# Altium footprint library BraaiBuddyPCB_Schematic_Lib.PcbLib: 29 footprints (part 2 of 2)
Each footprint in its own frame and in the unit in brackets; x right, y up, seen from the top. Pads: shape width x height; smd on the part's side, far side on the other; paste and mask are expansions set on the pad; w line width, h text height; cw(c..) or ccw(c..) is an arc to the next point about the centre after c.
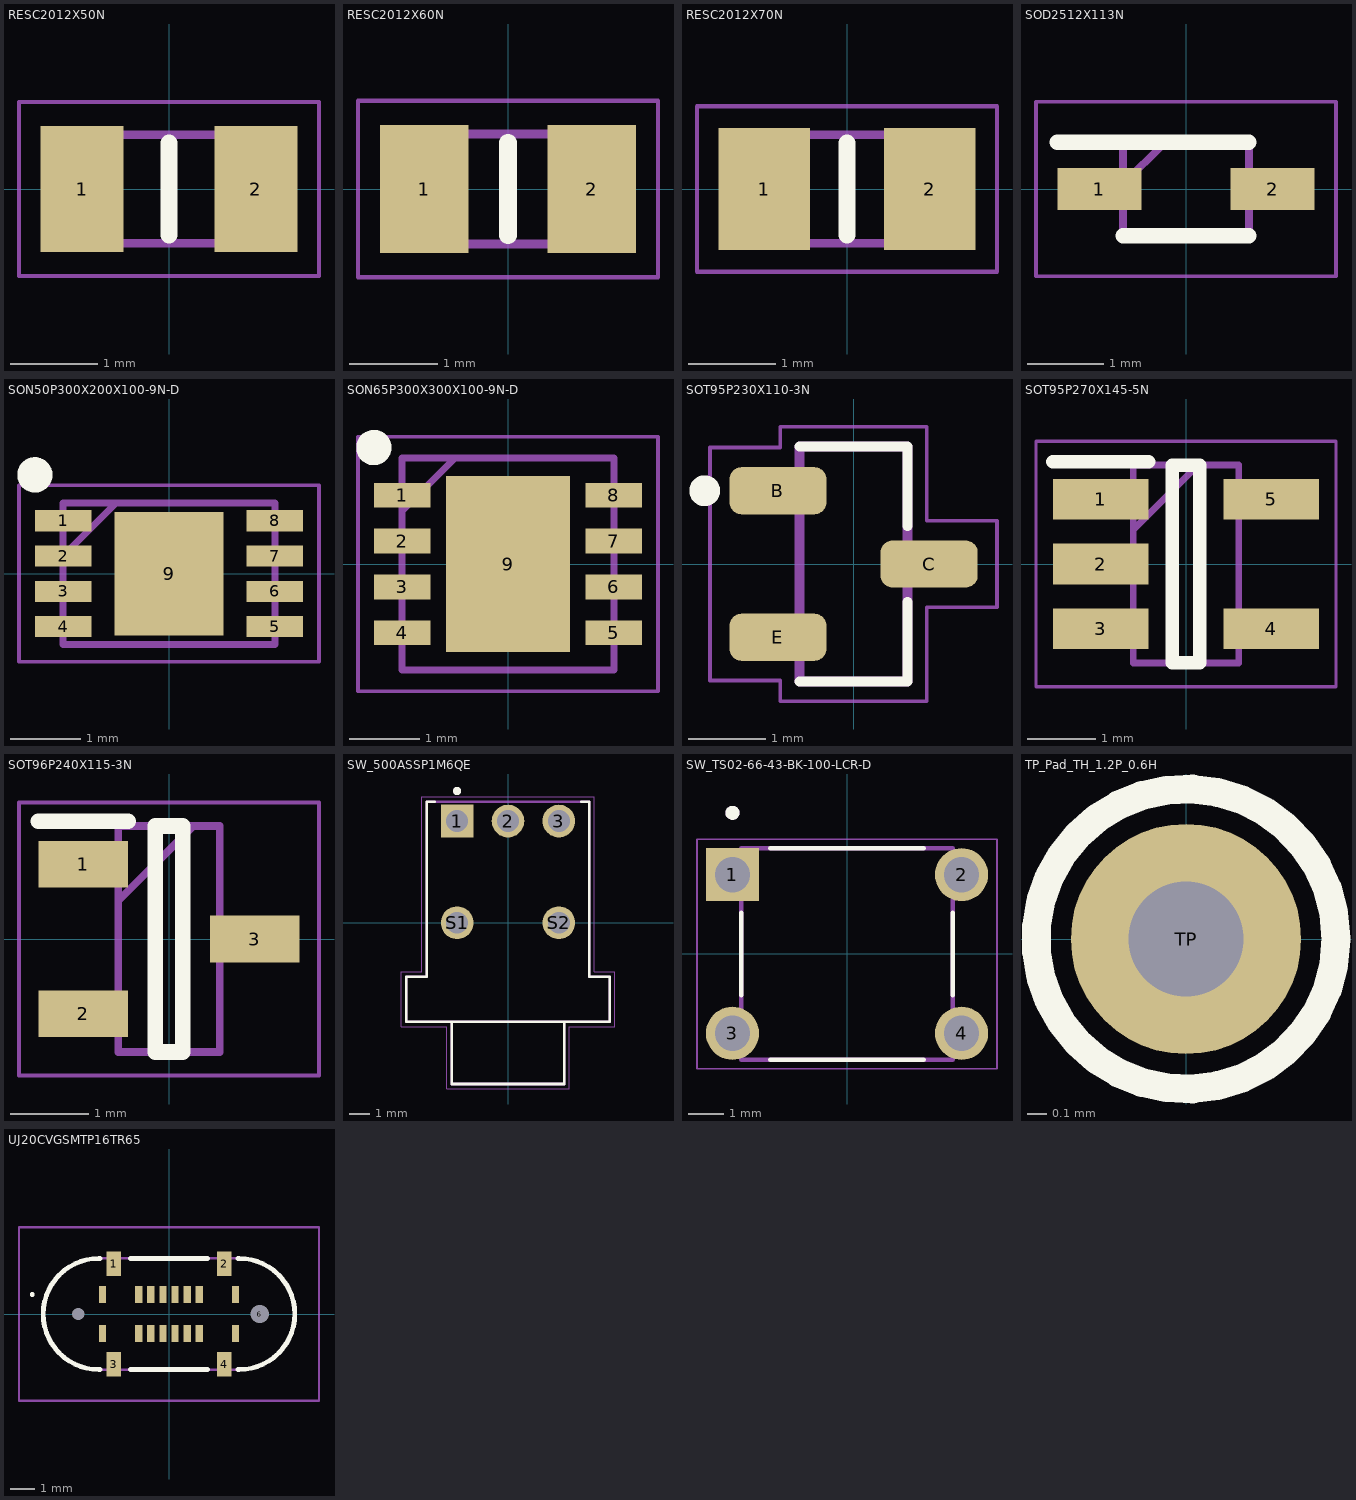
[diagram p1: the footprints below, top view; thin cyan lines are the x and y axes]

## RESC2012X50N [mm]
pads (2):
  rect 0.95x1.45 smd: 1(-1,0) 2(1,0)
Top Overlay:
  lines w0.2: 0,-0.525 0,0.525
Mechanical 13:
  lines w0.1: -1.025,-0.625 1.025,-0.625 1.025,0.625 -1.025,0.625 -1.025,-0.625
Mechanical 15:
  lines w0.05: -1.725,-1 1.725,-1 1.725,1 -1.725,1 -1.725,-1
3D body "CRCW0805100KJNECC.stp": height 0.45, standoff 0, extent -1,-0.62 1,0.63

## RESC2012X60N [mm]
pads (2):
  rect 1x1.45 smd: 1(-0.95,0) 2(0.95,0)
Top Overlay:
  lines w0.2: 0,-0.525 0,0.525
Mechanical 13:
  lines w0.1: -1,-0.625 1,-0.625 1,0.625 -1,0.625 -1,-0.625
Mechanical 15:
  lines w0.05: -1.7,-1 1.7,-1 1.7,1 -1.7,1 -1.7,-1
3D body "CR0805-FX-1002ELF.stp": height 0.5, standoff 0, extent -1,-0.625 1,0.625

## RESC2012X70N [mm]
pads (2):
  rect 1.05x1.4 smd: 1(-0.95,0) 2(0.95,0)
Top Overlay:
  lines w0.2: 0,-0.525 0,0.525
Mechanical 13:
  lines w0.1: -1,-0.625 -1,0.625 1,0.625 1,-0.625 -1,-0.625
Mechanical 15:
  lines w0.05: -1.725,-0.95 -1.725,0.95 1.725,0.95 1.725,-0.95 -1.725,-0.95
3D body "ERJ-PB6B2201V.stp": height 0.7, standoff 0, extent -1,-0.625 1,0.625

## SOD2512X113N [mm]
pads (2):
  rect 1.11x0.55 smd: 1(-1.14,0) 2(1.14,0)
Top Overlay:
  lines w0.2: -1.695,0.615 0.83,0.615 ; -0.83,-0.615 0.83,-0.615
Mechanical 13:
  lines w0.1: -0.83,0.06 -0.275,0.615 ; -0.83,-0.615 0.83,-0.615 0.83,0.615 -0.83,0.615 -0.83,-0.615
Mechanical 15:
  lines w0.05: -1.975,-1.15 1.975,-1.15 1.975,1.15 -1.975,1.15 -1.975,-1.15
3D body "BAT20JFILM.stp": height 1.13, standoff 0, extent -1.25,-0.615 1.25,0.615

## SON50P300X200X100-9N-D [mm]
pads (9):
  rect 0.8x0.3 smd: 1(-1.5,0.75) 2(-1.5,0.25) 3(-1.5,-0.25) 4(-1.5,-0.75) 5(1.5,-0.75) 6(1.5,-0.25) 7(1.5,0.25) 8(1.5,0.75)
  rect 1.55x1.75 smd: 9(0,0)
Top Overlay:
  circle w0.25: c-1.9,1.4 r0.125
Mechanical 13:
  lines w0.1: -1.5,0.25 -0.75,1 ; -1.5,-1 -1.5,1 1.5,1 1.5,-1 -1.5,-1
Mechanical 15:
  lines w0.05: -2.125,-1.25 -2.125,1.25 2.125,1.25 2.125,-1.25 -2.125,-1.25
3D body "MCP73831T-3ACI_MC.stp": height 1, standoff 0, extent -1.55,-1 1.55,1

## SON65P300X300X100-9N-D [mm]
pads (9):
  rect 0.8x0.35 smd: 1(-1.5,0.975) 2(-1.5,0.325) 3(-1.5,-0.325) 4(-1.5,-0.975) 5(1.5,-0.975) 6(1.5,-0.325) 7(1.5,0.325) 8(1.5,0.975)
  rect 1.75x2.5 smd: 9(0,0)
Top Overlay:
  circle w0.25: c-1.9,1.65 r0.125
Mechanical 13:
  lines w0.1: -1.5,0.75 -0.75,1.5 ; -1.5,-1.5 1.5,-1.5 1.5,1.5 -1.5,1.5 -1.5,-1.5
Mechanical 15:
  lines w0.05: -2.125,-1.8 2.125,-1.8 2.125,1.8 -2.125,1.8 -2.125,-1.8
3D body "TPS78501QWDRBRQ1.stp": height 1, standoff 0, extent -1.55,-1.5 1.55,1.5

## SOT95P230X110-3N [mm]
pads (3):
  rrect50% 1.26x0.61 smd: B(-0.98,0.95) C(0.98,0) E(-0.98,-0.95)
Top Overlay:
  circle w0.2: c-1.93,0.95 r0.1
  lines w0.127: -0.7,-1.525 0.7,-1.525 0.7,-0.489 ; -0.7,1.525 0.7,1.525 0.7,0.489
Mechanical 13:
  lines w0.127: -0.7,-1.525 0.7,-1.525 0.7,1.525 -0.7,1.525 -0.7,-1.525
Mechanical 15:
  lines w0.05: -1.86,-1.51 -0.95,-1.51 -0.95,-1.78 0.95,-1.78 0.95,-0.56 1.86,-0.56 1.86,0.56 0.95,0.56 0.95,1.78 -0.95,1.78 -0.95,1.51 -1.86,1.51 -1.86,-1.51
3D body "MMBT3904.stp": height 1.2, standoff 0, extent -1.2,-1.46 1.2,1.46

## SOT95P270X145-5N [mm]
pads (5):
  rect 1.4x0.6 smd: 1(-1.25,0.95) 2(-1.25,0) 3(-1.25,-0.95) 4(1.25,-0.95) 5(1.25,0.95)
Top Overlay:
  lines w0.2: -1.95,1.5 -0.55,1.5 ; -0.2,-1.45 -0.2,1.45 0.2,1.45 0.2,-1.45 -0.2,-1.45
Mechanical 13:
  lines w0.1: -0.775,0.5 0.175,1.45 ; -0.775,-1.45 -0.775,1.45 0.775,1.45 0.775,-1.45 -0.775,-1.45
Mechanical 15:
  lines w0.05: -2.2,-1.8 -2.2,1.8 2.2,1.8 2.2,-1.8 -2.2,-1.8
3D body "MCP73831T-2ACI_OT.stp": height 1.45, standoff 0, extent -1.35,-1.45 1.35,1.45

## SOT96P240X115-3N [mm]
pads (3):
  rect 1.15x0.6 smd: 1(-1.1,0.96) 2(-1.1,-0.96) 3(1.1,0)
Top Overlay:
  lines w0.2: -1.675,1.51 -0.525,1.51 ; -0.175,-1.45 -0.175,1.45 0.175,1.45 0.175,-1.45 -0.175,-1.45
Mechanical 13:
  lines w0.1: -0.65,0.49 0.31,1.45 ; -0.65,-1.45 -0.65,1.45 0.65,1.45 0.65,-1.45 -0.65,-1.45
Mechanical 15:
  lines w0.05: -1.925,-1.75 -1.925,1.75 1.925,1.75 1.925,-1.75 -1.925,-1.75
3D body "DMG2305UX-7.stp": height 1.15, standoff 0, extent -1.2,-1.5 1.2,1.4

## SW_500ASSP1M6QE [mm]
height 5.59
pads (5):
  rect 1.635x1.635 hole 1.09: 1(-2.54,5.08)
  round 1.635 hole 1.09: 2(0,5.08) 3(2.54,5.08) S1(-2.54,0) S2(2.54,0)
Top Overlay:
  circle w0.2: c-2.54,6.58 r0.1
  lines w0.127: -3.671,6.05 -4.065,6.05 -4.065,-2.7 -5.08,-2.7 -5.08,-4.95 -2.8,-4.95 ; 3.671,6.05 4.065,6.05 4.065,-2.7 5.08,-2.7 5.08,-4.95 2.8,-4.95 ; -2.8,-4.95 2.8,-4.95 ; -2.8,-4.95 -2.8,-8.05 2.8,-8.05 2.8,-4.95
Mechanical 13:
  circle w0.2: c-2.54,6.58 r0.1
  lines w0.127: -2.8,-4.95 -2.8,-8.05 2.8,-8.05 2.8,-4.95 ; -2.8,-4.95 -5.08,-4.95 -5.08,-2.7 -4.065,-2.7 -4.065,6.05 4.065,6.05 4.065,-2.7 5.08,-2.7 5.08,-4.95 2.8,-4.95 ; -2.8,-4.95 2.8,-4.95
Mechanical 15:
  lines w0.05: -5.33,-5.2 -5.33,-2.45 -4.315,-2.45 -4.315,6.3 4.315,6.3 4.315,-2.45 5.33,-2.45 5.33,-5.2 3.05,-5.2 3.05,-8.3 -3.05,-8.3 -3.05,-5.2 -5.33,-5.2
3D body "500ASSP1M6QE.step": height 5.59, standoff -3.3, extent -5.08,-8.05 5.08,6.05

## SW_TS02-66-43-BK-100-LCR-D [mm]
pads (4):
  rect 1.508x1.508 / inner round 1.508 / far side rect 1.508x1.508 hole 1: 1(-3.25,2.25)
  round 1.508 hole 1: 2(3.25,2.25) 3(-3.25,-2.25) 4(3.25,-2.25)
Top Overlay:
  circle w0.2: c-3.25,4.004 r0.1
  lines w0.127: -3,-1.176 -3,1.176 ; -2.176,-3 2.176,-3 ; -2.176,3 2.176,3 ; 3,-1.176 3,1.176
Mechanical 13:
  circle w0.2: c-3.25,4.004 r0.1
  lines w0.127: -3,-3 3,-3 3,3 -3,3 -3,-3
Mechanical 15:
  lines w0.05: -4.254,-3.254 -4.254,3.254 4.254,3.254 4.254,-3.254 -4.254,-3.254
3D body "TS02-66-43-BK-100-LCR-D.step": height 4.3, standoff -3.5, extent -3.95,-3 3.95,3

## TP_Pad_TH_1.2P_0.6H [mm]
pads (1):
  round 1.2 hole 0.6 paste-2539.97 mask+0: TP(0,0)
Top Overlay:
  circle w0.15: c0,0 r0.781
  text ".Comment" at -1.5,-1.592 h0.7

## UJ20CVGSMTP16TR65 [mm]
pads (22):
  rect 0.6x1.02 smd: 1(-2.29,2.075) 2(2.29,2.075) 3(-2.29,-2.075) 4(2.29,-2.075)
  round 0.25 hole 0.5 unplated: 5(-3.75,0)
  round 0.375 hole 0.75 unplated: 6(3.75,0)
  rect 0.3x0.69 smd: A1(-2.75,0.805) A4(-1.25,0.805) A5(-0.75,0.805) A6(-0.25,0.805) A7(0.25,0.805) A8(0.75,0.805) A9(1.25,0.805) A12(2.75,0.805) B1(2.75,-0.805) B4(1.25,-0.805) B5(0.75,-0.805) B6(0.25,-0.805) B7(-0.25,-0.805) B8(-0.75,-0.805) B9(-1.25,-0.805) B12(-2.75,-0.805)
Top Overlay:
  lines w0.1: -5.7,0.805 cw(c-5.65,0.805) -5.6,0.805 cw(c-5.65,0.805) -5.7,0.805
  lines w0.2: -2.85,-2.295 -2.9,-2.295 cw(c-2.9,0) -2.9,2.295 -2.85,2.295 ; -1.6,-2.295 1.6,-2.295 ; -1.6,2.295 1.6,2.295 ; 2.85,-2.295 2.9,-2.295 ccw(c2.9,0) 2.9,2.295 2.85,2.295
Mechanical 13:
  lines w0.1: -2.9,-2.295 cw(c-2.9,0) -2.9,2.295 0,2.295 2.9,2.295 cw(c2.9,0) 2.9,-2.295 -2.9,-2.295
Mechanical 15:
  lines w0.1: -6.195,-3.585 6.195,-3.585 6.195,3.585 -6.195,3.585 -6.195,-3.585
3D body "UJ20-C-V-G-SMT-P16-TR-65.stp": height 0, standoff -6.42, extent -5.19,-2.38 5.19,2.38